# Altium schematic symbol library SCHLib.SchLib: 16 symbols
Pins are listed as number, name and electrical type; pins without a type are passive.

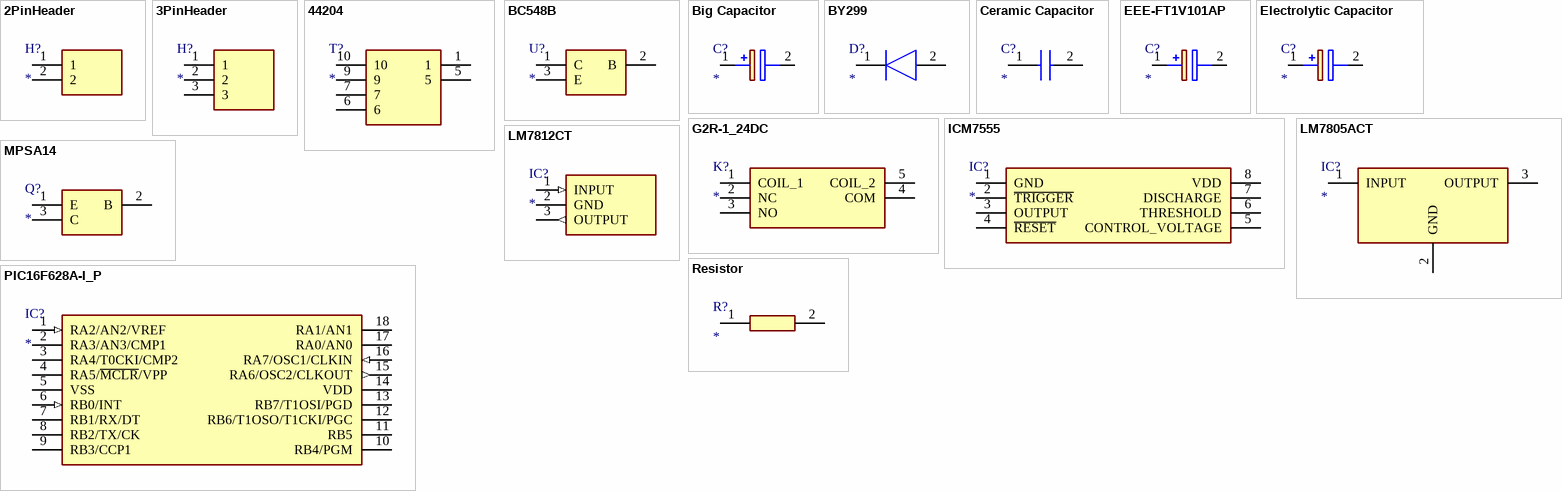
[diagram p0: symbols 2PinHeader to Resistor]

## 2PinHeader
designator H?
Connector; Manufacturer_Name: Molex; Manufacturer_Part_Number: 0010845020; Datasheet Link: https://www.mouser.com/datasheet/2/276/0010845020_PCB_HEADERS-247555.pdf; Height: 14.22mm; Mouser Part Number: N/A; Mouser Price/Stock: https://www.mouser.com/Search/Refine.aspx?Keyword=N%2FA
footprint 0010845020
pins: 1, 2

## 3PinHeader
designator H?
Connector; Manufacturer_Name: TE Connectivity; Manufacturer_Part_Number: 5-146278-3; Allied_Number: 70042446; Datasheet Link: https://www.mouser.com/datasheet/2/418/NG_CD_146278_H1-1238585.pdf; Height: 8.13mm; Mouser Part Number: 571-5-146278-3; Mouser Price/Stock: https://www.mouser.com/Search/Refine.aspx?Keyword=571-5-146278-3; RS Part Number: 7829195; RS Price/Stock: https://uk.rs-online.com/web/p/products/7829195; Allied Price/Stock: https://www.alliedelec.com/teconnectivity-5-146278-3/70042446/
footprint 51462783
pins: 1, 2, 3

## 44204
designator T?
Transformer; Manufacturer_Name: MYRRA; Manufacturer_Part_Number: 44204; Description: 25 V ac 2 Output Through Hole PCB Transformer; Datasheet Link: https://componentsearchengine.com/Datasheets/2/44204.pdf; Height: 28.1mm; RS Part Number: 1739917; RS Price/Stock: http://uk.rs-online.com/web/p/products/1739917
footprint 44204
pins: 1, 5, 6, 7, 9, 10

## BC548B
designator U?
Undefined or Miscellaneous; Manufacturer_Name: ON Semiconductor; Manufacturer_Part_Number: BC548B; Datasheet Link: http://componentsearchengine.com/Datasheets/1/BC548B.pdf; Mouser Part Number: 512-BC548B; Mouser Price/Stock: http://www.mouser.com/Search/ProductDetail.aspx?qs=ljbEvF4DwOPrhFN8FYf3cw%3d%3d; RS Part Number: 4379568; RS Price/Stock: http://uk.rs-online.com/web/p/products/4379568
footprint TO127P254X732-3
pins: 1 C, 2 B, 3 E

## Big Capacitor
designator C?
Capacitor Polarised; Manufacturer_Name: Panasonic; Manufacturer_Part_Number: EEE-FT1E102UP; Description: Aluminum Electrolytic Capacitors - SMD; Datasheet Link: https://componentsearchengine.com/Datasheets/1/EEE-FT1E102UP.pdf; Height: 10.5mm; Mouser Part Number: 667-EEE-FT1E102UP; Mouser Price/Stock: https://www.mouser.com/Search/Refine.aspx?Keyword=667-EEE-FT1E102UP
footprint CAPAE1030X1050N
pins: 1 +, 2 -

## BY299
designator D?
Diode; Manufacturer_Name: MULTICOMP; Manufacturer_Part_Number: BY299; Description: SOFT RECOVERY DIODE; Datasheet Link: https://componentsearchengine.com/Datasheets/2/BY299.pdf
footprint DIOAD2855W130L835D505
pins: 1 K, 2 A

## Ceramic Capacitor
designator C?
Capacitor; Manufacturer_Name: AVX; Manufacturer_Part_Number: 08055A101JAT2A; Allied_Number: 70474488; Datasheet Link: https://componentsearchengine.com/Datasheets/1/06031A100FAT2A.pdf; Height: 0.94mm; Mouser Part Number: 581-08055A101J; Mouser Price/Stock: https://www.mouser.com/Search/Refine.aspx?Keyword=581-08055A101J; RS Part Number: 0391000P; RS Price/Stock: http://uk.rs-online.com/web/p/products/0391000P; Allied Price/Stock: https://www.alliedelec.com/avx-08055a101jat2a/70474488/
footprint CAPC2012X94N
pins: 1, 2

## EEE-FT1V101AP
designator C?
Capacitor Polarised; Manufacturer_Name: Panasonic; Manufacturer_Part_Number: EEE-FT1V101AP; Description: Aluminum Electrolytic Capacitors - SMD 100uF 35volts 6.3x5.8mm SMD; Allied_Number: 70258385; Datasheet Link: https://industrial.panasonic.com/cdbs/www-data/pdf/RDE0000/ABA0000C1240.pdf; Height: 6.1mm; Mouser Part Number: 667-EEE-FT1V101AP; Mouser Price/Stock: https://www.mouser.com/Search/Refine.aspx?Keyword=667-EEE-FT1V101AP; Allied Price/Stock: https://www.alliedelec.com/panasonic-eee-ft1v101ap/70258385/
footprint CAPAE660X610N
pins: 1 +, 2 -

## Electrolytic Capacitor
designator C?
Capacitor Polarised; Manufacturer_Name: ST(Semtech); Manufacturer_Part_Number: CS1H220M-CRE54; Datasheet Link: https://datasheet.lcsc.com/szlcsc/1809042041_ST-Semtech-CS1H220M-CRE54_C98744.pdf; Height: 5.8mm
footprint CAPAE660X580N
pins: 1 +, 2 -

## G2R-1_24DC
designator K?
Relay or Contactor; Manufacturer_Name: Omron Electronics; Manufacturer_Part_Number: G2R-1 24DC; Description: RELAY; Datasheet Link: https://componentsearchengine.com/Datasheets/2/G2R-1 24DC.pdf; Height: 25.5mm; RS Part Number: 0366265; RS Price/Stock: http://uk.rs-online.com/web/p/products/0366265
footprint G2R124DC
pins: 1 COIL_1, 2 NC, 3 NO, 4 COM, 5 COIL_2

## ICM7555
designator IC?
Integrated Circuit; Manufacturer_Name: Renesas Electronics; Manufacturer_Part_Number: ICM7555CBAZ; Datasheet Link: http://www.intersil.com/content/dam/Intersil/documents/icm7/icm7555-56.pdf; Height: 1.75mm
footprint SOIC127P600X175-8N
pins: 1 GND, 2 ~{TRIGGER}, 3 OUTPUT, 4 ~{RESET}, 5 CONTROL_VOLTAGE, 6 THRESHOLD, 7 DISCHARGE, 8 VDD

## LM7805ACT
designator IC?
Integrated Circuit; Manufacturer_Name: ON Semiconductor; Manufacturer_Part_Number: LM7805ACT; Description: ON Semiconductor LM7805ACT Linear Voltage Regulator; Datasheet Link: https://componentsearchengine.com/Datasheets/2/LM7805ACT.pdf; Height: 4.7mm; Mouser Part Number: 512-LM7805ACT; Mouser Price/Stock: https://www.mouser.com/Search/Refine.aspx?Keyword=512-LM7805ACT; RS Part Number: 8062839; RS Price/Stock: http://uk.rs-online.com/web/p/products/8062839
footprint TO254P470X1016X2019-3P
pins: 1 INPUT, 2 GND, 3 OUTPUT

## LM7812CT
designator IC?
Integrated Circuit; Manufacturer_Name: Texas Instruments; Manufacturer_Part_Number: LM7812CT; Description: TO220 voltage regulator,LM7812CT 12V 1A; Datasheet Link: http://www.ti.com/lit/ds/symlink/lm7800.pdf; Height: 4.7mm; Mouser Part Number: 926-LM7812CT; Mouser Price/Stock: https://www.mouser.com/Search/Refine.aspx?Keyword=926-LM7812CT; RS Part Number: 0648438A; RS Price/Stock: http://uk.rs-online.com/web/p/products/0648438A
footprint TO254P470X1028X1955-3P
pins: 1 INPUT (in), 2 GND (power), 3 OUTPUT (out)

## MPSA14
designator Q?
Transistor Darlington Pair; Manufacturer_Name: Central Semiconductor; Manufacturer_Part_Number: MPSA14; Description: Darlington Transistors NPN GP Darl; Datasheet Link: https://my.centralsemi.com/get_document.php?cmp=1&mergetype=pd&mergepath=pd&pdf_id=MPSA12-14.PDF; Mouser Part Number: 610-MPSA14; Mouser Price/Stock: https://www.mouser.com/Search/Refine.aspx?Keyword=610-MPSA14
footprint CS_TO-92
pins: 1 E, 2 B, 3 C

## PIC16F628A-I_P
designator IC?
Integrated Circuit; Manufacturer_Name: Microchip; Manufacturer_Part_Number: PIC16F628A-I/P; Datasheet Link: http://docs-emea.rs-online.com/webdocs/1382/0900766b8138209a.pdf; Height: 4.32mm; Mouser Part Number: 579-PIC16F628A-I/P; Mouser Price/Stock: https://www.mouser.com/Search/Refine.aspx?Keyword=579-PIC16F628A-I%2FP; RS Part Number: 1214233P; RS Price/Stock: http://uk.rs-online.com/web/p/products/1214233P
footprint DIP794W56P254L2280H432Q18N
pins: 1 RA2/AN2/VREF (in), 2 RA3/AN3/CMP1, 3 RA4/T0CKI/CMP2, 4 RA5/~{MCLR}/VPP, 5 VSS (power), 6 RB0/INT (in), 7 RB1/RX/DT, 8 RB2/TX/CK, 9 RB3/CCP1, 10 RB4/PGM, 11 RB5, 12 RB6/T1OSO/T1CKI/PGC, 13 RB7/T1OSI/PGD, 14 VDD (power), 15 RA6/OSC2/CLKOUT (out), 16 RA7/OSC1/CLKIN (in), 17 RA0/AN0, 18 RA1/AN1

## Resistor
designator R?
Resistor; Manufacturer_Name: TE Connectivity; Manufacturer_Part_Number: CPF0805B100KE; Allied_Number: 70286772; Datasheet Link: http://docs-europe.electrocomponents.com/webdocs/13d1/0900766b813d116f.pdf; Height: 0.65mm; Mouser Part Number: 279-CPF0805B100KE; Mouser Price/Stock: https://www.mouser.com/Search/Refine.aspx?Keyword=279-CPF0805B100KE; RS Part Number: 6662673P; RS Price/Stock: http://uk.rs-online.com/web/p/products/6662673P; Allied Price/Stock: https://www.alliedelec.com/te-connectivity-cpf0805b100ke/70286772/
footprint RESC2012X65N
pins: 1, 2